# EAGLE library part ESDA6V1-5M6 (library TVS)
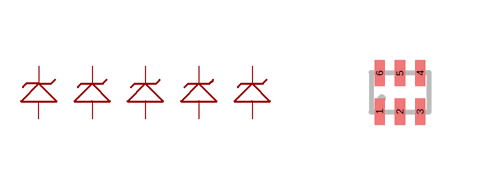
[diagram p0: symbol with the pads of 5X-TVS; footprint 5X-TVS]

Designator prefix D; gates G$1=TVS G$2=TVSP2 G$3=TVSP2 G$4=TVSP2 G$5=TVSP2

## ESDA6V1-5M6  [5X-TVS]
1  G$1:1
2  G$1:2
3  G$2:P$1
4  G$3:P$1
5  G$4:P$1
6  G$5:P$1

## Footprint 5X-TVS (pad centres in mm)
smd 0.254 x 0.66: 1 -0.508,-0.483; 2 0,-0.483; 3 0.508,-0.483; 4 0.508,0.483; 5 0,0.483; 6 -0.508,0.483